# Altium schematic symbol library SCH - CRYSTALS - ECS ECX-1247B.SCHLIB: 1 symbol
Pins are listed as number, name and electrical type; pins without a type are passive.

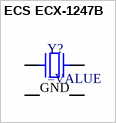
[diagram p0: symbol ECS ECX-1247B]

## ECS ECX-1247B
designator Y?
SMT Crystal
pins: 1, 2 GND, 3, 4 GND